# Altium footprint library LW Y1SG.PcbLib: 1 footprints
Each footprint in its own frame and in the unit in brackets; x right, y up, seen from the top. Pads: shape width x height; smd on the part's side, far side on the other; paste and mask are expansions set on the pad; w line width, h text height; cw(c..) or ccw(c..) is an arc to the next point about the centre after c.
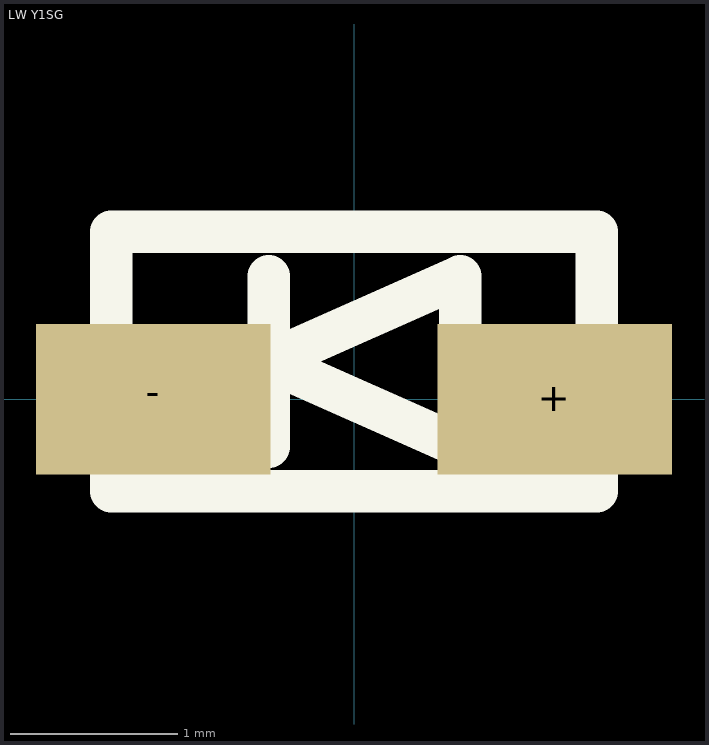
[diagram p0: the footprint, top view; thin cyan lines are the x and y axes]

## LW Y1SG [mm] "LED perpendicular mount"
height 0.9
pads (2):
  rect 1.4x0.9 smd: +(1.2,0) -(-1.2,0)
Top Overlay:
  lines w0.254: -0.889,0.225 -0.508,0.225 ; -0.508,-0.283 -0.508,0.733 ; 0.635,0.225 1.016,0.225 ; -0.508,0.225 0.635,-0.283 0.635,0.733 -0.508,0.225 ; -1.45,-0.55 -1.45,1 1.45,1 1.45,0 1.45,-0.55 -1.45,-0.55
3D body: height 0.9, standoff 0, extent -1.449,-0.549 1.449,0.999